# EAGLE library part ATMEGA328P (library My Robot Library)
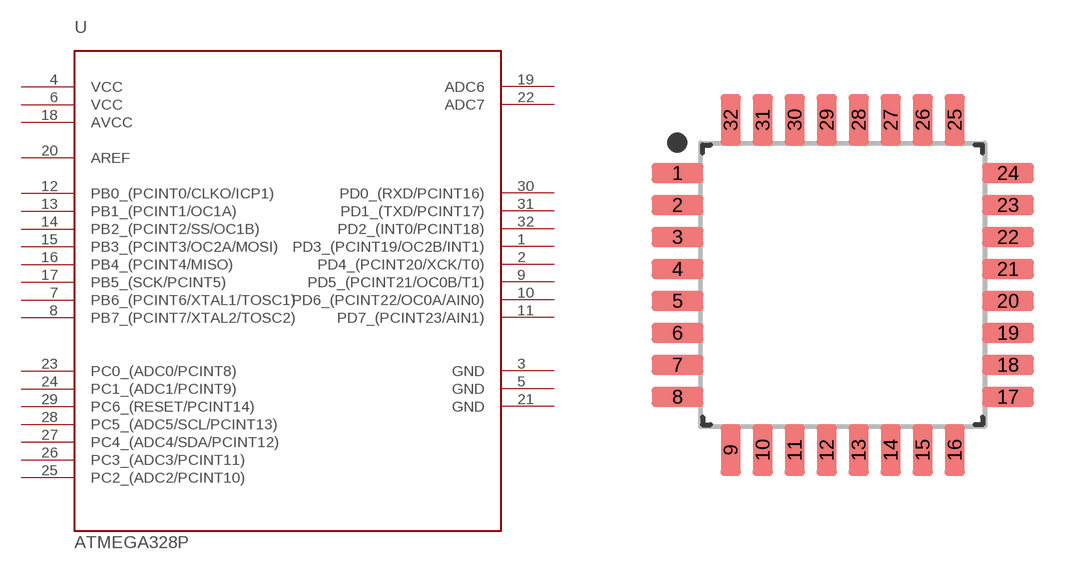
[diagram p0: symbol with the pads of QFP80P900X900X120-32; footprint QFP80P900X900X120-32]

Designator prefix U

## ATMEGA328PTQFP  [QFP80P900X900X120-32]
1  PD3_(PCINT19/OC2B/INT1)
2  PD4_(PCINT20/XCK/T0)
3  GND
4  VCC
5  GND
6  VCC
7  PB6_(PCINT6/XTAL1/TOSC1)
8  PB7_(PCINT7/XTAL2/TOSC2)
9  PD5_(PCINT21/OC0B/T1)
10  PD6_(PCINT22/OC0A/AIN0)
11  PD7_(PCINT23/AIN1)
12  PB0_(PCINT0/CLKO/ICP1)
13  PB1_(PCINT1/OC1A)
14  PB2_(PCINT2/SS/OC1B)
15  PB3_(PCINT3/OC2A/MOSI)
16  PB4_(PCINT4/MISO)
17  PB5_(SCK/PCINT5)
18  AVCC
19  ADC6
20  AREF
21  GND
22  ADC7
23  PC0_(ADC0/PCINT8)
24  PC1_(ADC1/PCINT9)
25  PC2_(ADC2/PCINT10)
26  PC3_(ADC3/PCINT11)
27  PC4_(ADC4/SDA/PCINT12)
28  PC5_(ADC5/SCL/PCINT13)
29  PC6_(RESET/PCINT14)
30  PD0_(RXD/PCINT16)
31  PD1_(TXD/PCINT17)
32  PD2_(INT0/PCINT18)

## Footprint QFP80P900X900X120-32 (pad centres in mm)
32-QFP, 0.80 mm pitch, 9.00 mm span, 7.00 X 7.00 X 1.20 mm body 32-pin QFP package with 0.80 mm pitch, 9.00 mm lead span1 X 9.00 mm lead span2 with body size 7.00 X 7.00 X 1.20 mm
smd 1.3 x 0.507: 1 -4.131,2.8; 2 -4.131,2; 3 -4.131,1.2; 4 -4.131,0.4; 5 -4.131,-0.4; 6 -4.131,-1.2; 7 -4.131,-2; 8 -4.131,-2.8; 17 4.131,-2.8; 18 4.131,-2; 19 4.131,-1.2; 20 4.131,-0.4; 21 4.131,0.4; 22 4.131,1.2; 23 4.131,2; 24 4.131,2.8
smd 0.507 x 1.3: 9 -2.8,-4.131; 10 -2,-4.131; 11 -1.2,-4.131; 12 -0.4,-4.131; 13 0.4,-4.131; 14 1.2,-4.131; 15 2,-4.131; 16 2.8,-4.131; 25 2.8,4.131; 26 2,4.131; 27 1.2,4.131; 28 0.4,4.131; 29 -0.4,4.131; 30 -1.2,4.131; 31 -2,4.131; 32 -2.8,4.131